# EAGLE library part LP2951CM (library stabilizatory)
VOLTAGE REGULATOR
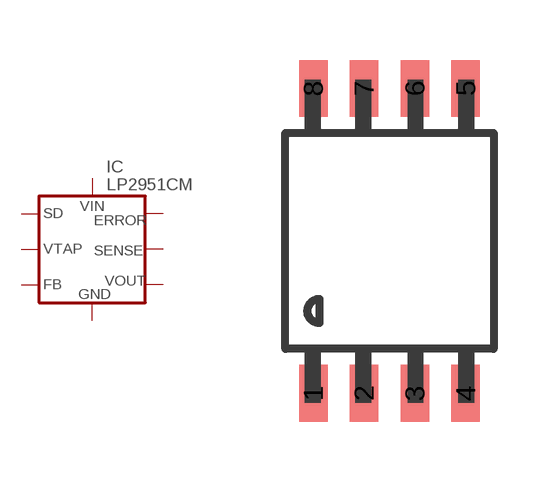
[diagram p23: symbol with the pads of SO8; footprint SO8]

Designator prefix IC

## LP2951CM  [SO8]
1  VOUT  pas
2  SENSE  in
3  SD  in
4  GND  in
5  ERROR  in
6  VTAP  in
7  FB  in
8  VIN  in

## Footprint SO8 (pad centres in mm)
SO8 Package
smd 0.711 x 1.422: 1 -1.905,-3.81; 2 -0.635,-3.81; 3 0.635,-3.81; 4 1.905,-3.81; 5 1.905,3.81; 6 0.635,3.81; 7 -0.635,3.81; 8 -1.905,3.81